# Altium footprint library Amplificadores operacionales.PcbLib: 3 footprints
Each footprint in its own frame and in the unit in brackets; x right, y up, seen from the top. Pads: shape width x height; smd on the part's side, far side on the other; paste and mask are expansions set on the pad; w line width, h text height; cw(c..) or ccw(c..) is an arc to the next point about the centre after c.
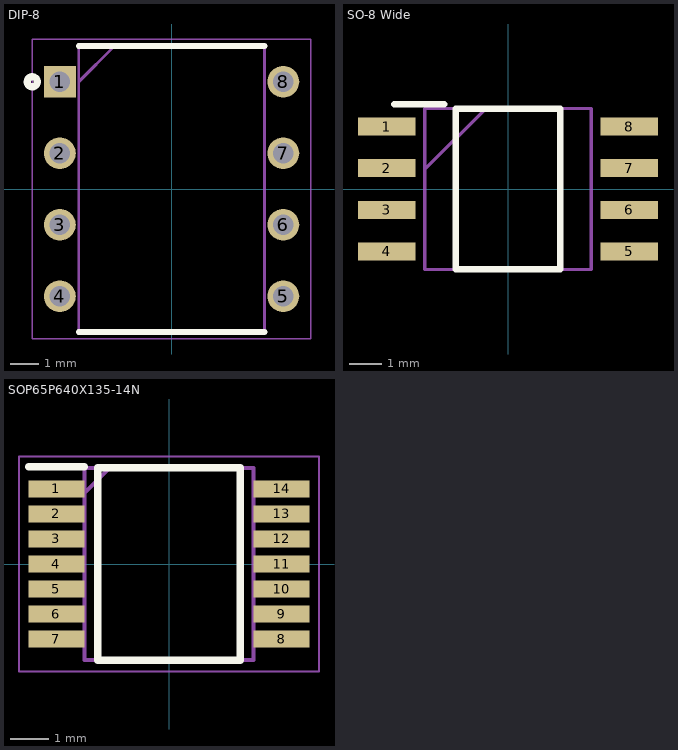
[diagram p0: the footprints below, top view; thin cyan lines are the x and y axes]

## DIP-8 [mm]
pads (8):
  rect 1.13x1.13 hole 0.73: 1(-3.97,3.81)
  round 1.13 hole 0.73: 2(-3.97,1.27) 3(-3.97,-1.27) 4(-3.97,-3.81) 5(3.97,-3.81) 6(3.97,-1.27) 7(3.97,1.27) 8(3.97,3.81)
Top Overlay:
  circle w0.254: c-4.953,3.81 r0.18
  lines w0.2: -3.302,5.08 3.3,5.08 ; -3.3,-5.08 3.3,-5.08
Mechanical 13:
  lines w0.1: -3.3,3.81 -2.03,5.08 ; -3.3,-5.08 3.3,-5.08 3.3,5.08 -3.3,5.08 -3.3,-5.08
Mechanical 15:
  lines w0.05: -4.945,-5.33 4.945,-5.33 4.945,5.33 -4.945,5.33 -4.945,-5.33
3D body "TL081CP.stp": height 5.08, standoff -3.5, extent -4.102,-4.795 4.102,4.795

## SO-8 Wide [mm]
pads (8):
  rect 1.75x0.55 smd: 1(-3.7,1.905) 2(-3.7,0.635) 3(-3.7,-0.635) 4(-3.7,-1.905) 5(3.7,-1.905) 6(3.7,-0.635) 7(3.7,0.635) 8(3.7,1.905)
Top Overlay:
  lines w0.2: -3.475,2.58 -1.948,2.58 ; -1.598,-2.452 1.598,-2.452 1.598,2.452 -1.598,2.452 -1.598,-2.452
Mechanical 13:
  lines w0.1: -2.517,0.613 -0.678,2.452 ; -2.54,-2.452 2.54,-2.452 2.54,2.452 -2.54,2.452 -2.54,-2.452
3D body "SO-8.STEP": height 1.95, standoff 0, extent -3.95,-2.65 3.95,2.65

## SOP65P640X135-14N [mm]
pads (14):
  rect 1.45x0.45 smd: 1(-2.925,1.95) 2(-2.925,1.3) 3(-2.925,0.65) 4(-2.925,0) 5(-2.925,-0.65) 6(-2.925,-1.3) 7(-2.925,-1.95) 8(2.925,-1.95) 9(2.925,-1.3) 10(2.925,-0.65) 11(2.925,0) 12(2.925,0.65) 13(2.925,1.3) 14(2.925,1.95)
Top Overlay:
  lines w0.2: -3.65,2.525 -2.2,2.525 ; -1.85,-2.5 1.85,-2.5 1.85,2.5 -1.85,2.5 -1.85,-2.5
Mechanical 13:
  lines w0.1: -2.2,1.85 -1.55,2.5 ; -2.2,-2.5 2.2,-2.5 2.2,2.5 -2.2,2.5 -2.2,-2.5
Mechanical 15:
  lines w0.05: -3.9,-2.8 3.9,-2.8 3.9,2.8 -3.9,2.8 -3.9,-2.8
3D body "LM324DTBR2G.stp": height 1.35, standoff 0, extent -3.2,-2.5 3.2,2.5